# EAGLE library part ADA4627-1R (library analog-devices)
36 V, 19 MHz, Low Noise, Low Bias Current, JFET Operational Amplifier Source: http://www.analog.com/static/imported-files/data_sheets/ADA4627-1.pdf
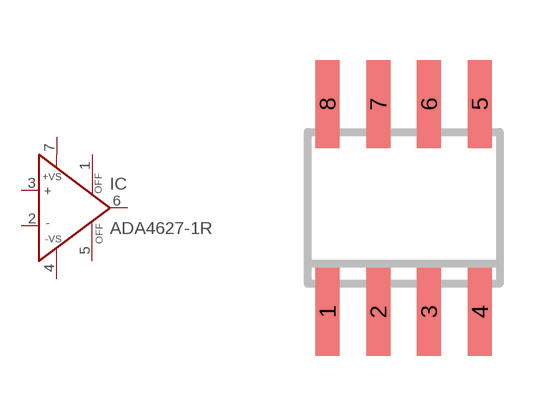
[diagram p13: symbol with the pads of SO8; footprint SO8]

Designator prefix IC

## ADA4627-1R (MPN: ADA4627-1ARZ; OC_FARNELL: 1827378; OC_NEWARK: 26R2398)  [SO8]
1  OFF  pas
2  IN-  in
3  IN+  in
4  -VS  in
5  OFF  pas
6  OUT  out
7  +VS  in

## Footprint SO8 (pad centres in mm)
SMALL OUTLINE INTEGRATED CIRCUIT SOP-8L Source: http://www.diodes.com/datasheets/ds31262.pdf
smd 0.6 x 2.2: 1 -1.905,-2.6; 2 -0.635,-2.6; 3 0.635,-2.6; 4 1.905,-2.6; 5 1.905,2.6; 6 0.635,2.6; 7 -0.635,2.6; 8 -1.905,2.6